# EAGLE library part 62401621722 (library WR-WTB)
WR-WTB 2.00 mm Male Dual Row Horizontal Shrouded Header w. positive locking Material Properties Insulator Material PBT Insulator Flammability Rating UL94 V-0 Color White Contact Material Copper Alloy Contact Plating Tin Contact Type Stamped Certification UL Approval E323964 General Information Operating Temperature -25 °C up to +85 °C Compliance RoHS IR 3 A Working Voltage 250 V (AC) Withstanding Voltage 1000 V (AC) Contact Resistance 20 mΩ RISO 1000 MΩ Pitch 2 mm Gender Male Type Horizontal Packaging Properties Packaging Tube Details see: www.we-online.com/en/components/products/WTB_2_00_MALE_DUAL_ROW_HORIZONTAL_SHROUDED_HEADER_W_POSITIVE_LOCKING_6240XX21722 Updated by Ella 2025-03-06 2025 (C) Würth Elektronik
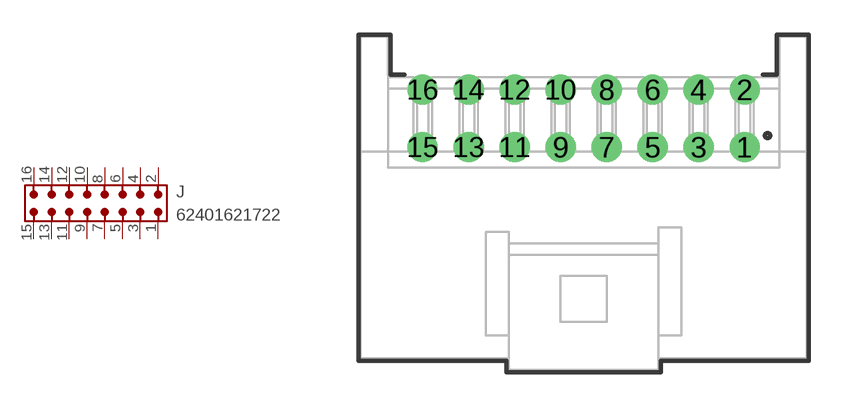
[diagram p75: symbol with the pads of 62401621722; footprint 62401621722]

Designator prefix J

## 62401621722 (CONTACT-RESISTANCE: 20mOhm; DATASHEET: https://www.we-online.com/redexpert/spec/62401621722?ae; GENDER: Male; IR: 3A; L: 19.4mm; MOUNT: THT; PACKAGING: Tube; PART-NUMBER: 62401621722; PCB-CABLE-PANEL: PCB; PINS: 16; PITCH: 2mm; TYPE: Horizontal; VALUE: 62401621722; WORKING-VOLTAGE: 250V(AC))  [62401621722]
1  1  pas
2  2  pas
3  3  pas
4  4  pas
5  5  pas
6  6  pas
7  7  pas
8  8  pas
9  9  pas
10  10  pas
11  11  pas
12  12  pas
13  13  pas
14  14  pas
15  15  pas
16  16  pas

## Footprint 62401621722 (pad centres in mm)
WR-WTB 2.00 mm Male Dual Row Horizontal Shrouded Header w. positive locking, 16 pins
drill 0.8: 1 7,2.2; 2 7,4.7; 3 5,2.2; 4 5,4.7; 5 3,2.2; 6 3,4.7; 7 1,2.2; 8 1,4.7; 9 -1,2.2; 10 -1,4.7; 11 -3,2.2; 12 -3,4.7; 13 -5,2.2; 14 -5,4.7; 15 -7,2.2; 16 -7,4.7